# EAGLE library part HEADER_2X4 (library headers)
PIN HEADER
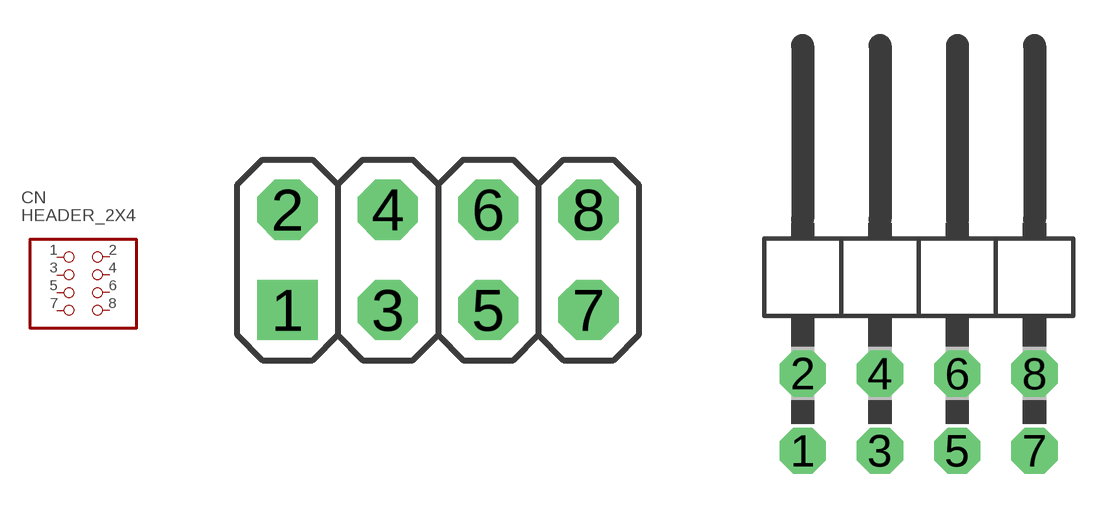
[diagram p23: symbol with the pads of 2X04; footprints 2X04, 2X04/90]

Designator prefix CN

## HEADER_2X4_2.54  [2X04]
1  1  pas
2  2  pas
3  3  pas
4  4  pas
5  5  pas
6  6  pas
7  7  pas
8  8  pas

## HEADER_2X4_2.54-90°  [2X04/90]
Pads as for 2X04

## HEADER_2X4_2.00  [2X04_2MM]
Pads as for 2X04

## HEADER_2X4_2.54-SMD  [2X04SMD]
Pads as for 2X04

## HEADER_2X4_2.54-SMD-90°  [2X04SMD/90]
Pads as for 2X04

## Footprint 2X04 (pad centres in mm)
PIN HEADER - 2.54
drill 1.016 square: 1 -3.81,-1.27
drill 1.016 octagon: 2 -3.81,1.27; 3 -1.27,-1.27; 4 -1.27,1.27; 5 1.27,-1.27; 6 1.27,1.27; 7 3.81,-1.27; 8 3.81,1.27

## Footprint 2X04/90 (pad centres in mm)
PIN HEADER - 2.54 90°
drill 1.016 octagon: 1 -3.81,-6.35; 2 -3.81,-3.81; 3 -1.27,-6.35; 4 -1.27,-3.81; 5 1.27,-6.35; 6 1.27,-3.81; 7 3.81,-6.35; 8 3.81,-3.81

## Footprint 2X04_2MM (pad centres in mm)
PIN HEADER - 2
drill 0.914 square: 1 -3,-1
drill 0.914: 2 -3,1; 3 -1,-1; 4 -1,1; 5 1,-1; 6 1,1; 7 3,-1; 8 3,1

## Footprint 2X04SMD (pad centres in mm)
PIN HEADER - 2.54 SMD
smd 1.016 x 3.302: 1 -1.27,-3.81; 2 -1.27,1.27; 3 1.27,-3.81; 4 1.27,1.27; 5 3.81,-3.81; 6 3.81,1.27; 7 6.35,-3.81; 8 6.35,1.27

## Footprint 2X04SMD/90 (pad centres in mm)
PIN HEADER - 2.54 90°
smd 1.016 x 1.778: 1 -1.27,-8.89; 2 -1.27,-5.08; 3 1.27,-8.89; 4 1.27,-5.08; 5 3.81,-8.89; 6 3.81,-5.08; 7 6.35,-8.89; 8 6.35,-5.08